# EAGLE library part AD7124-8BCPZ (library analog-devices-extra-AD7124-8BCPZ)
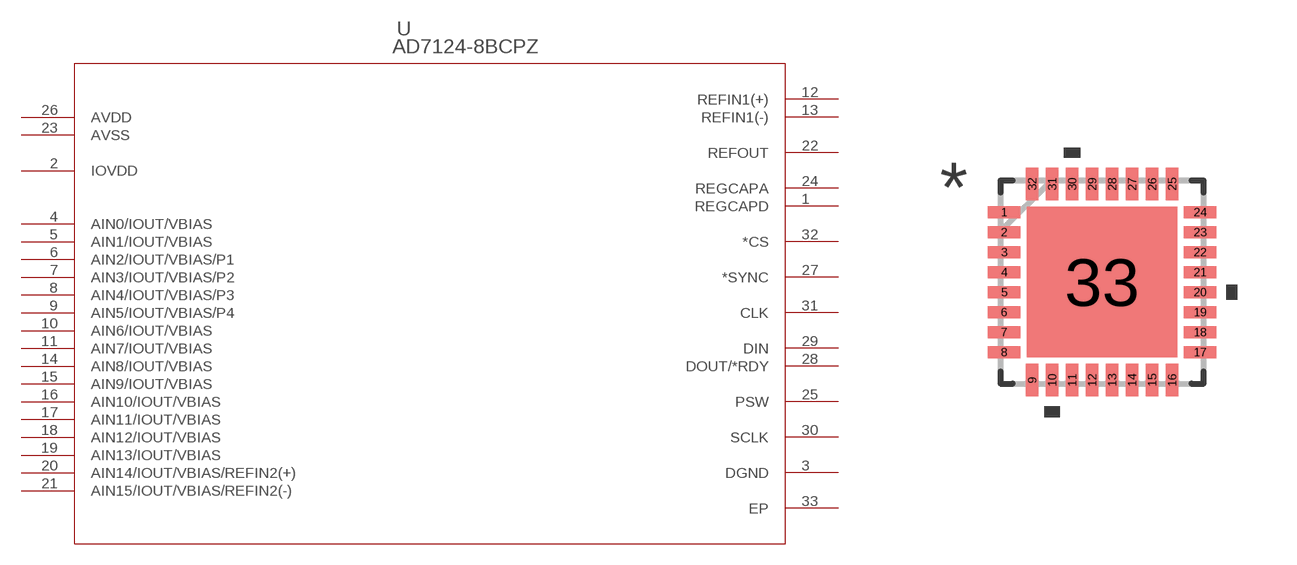
[diagram p0: symbol with the pads of CP_32_12; footprint CP_32_12]

Designator prefix U

## AD7124-8BCPZ  [CP_32_12]
1  REGCAPD  pas
2  IOVDD  pas
3  DGND  pas
4  AIN0/IOUT/VBIAS  pas
5  AIN1/IOUT/VBIAS  pas
6  AIN2/IOUT/VBIAS/P1  pas
7  AIN3/IOUT/VBIAS/P2  pas
8  AIN4/IOUT/VBIAS/P3  pas
9  AIN5/IOUT/VBIAS/P4  pas
10  AIN6/IOUT/VBIAS  pas
11  AIN7/IOUT/VBIAS  pas
12  REFIN1(+)  pas
13  REFIN1(-)  pas
14  AIN8/IOUT/VBIAS  pas
15  AIN9/IOUT/VBIAS  pas
16  AIN10/IOUT/VBIAS  pas
17  AIN11/IOUT/VBIAS  pas
18  AIN12/IOUT/VBIAS  pas
19  AIN13/IOUT/VBIAS  pas
20  AIN14/IOUT/VBIAS/REFIN2(+)  pas
21  AIN15/IOUT/VBIAS/REFIN2(-)  pas
22  REFOUT  pas
23  AVSS  pas
24  REGCAPA  pas
25  PSW  pas
26  AVDD  pas
27  *SYNC  pas
28  DOUT/*RDY  pas
29  DIN  pas
30  SCLK  pas
31  CLK  pas
32  *CS  pas
33  EP  pas

## Footprint CP_32_12 (pad centres in mm)
smd 0.813 x 0.305: 1 -2.451,1.75; 2 -2.451,1.25; 3 -2.451,0.75; 4 -2.451,0.25; 5 -2.451,-0.25; 6 -2.451,-0.75; 7 -2.451,-1.25; 8 -2.451,-1.75; 17 2.451,-1.75; 18 2.451,-1.25; 19 2.451,-0.75; 20 2.451,-0.25; 21 2.451,0.25; 22 2.451,0.75; 23 2.451,1.25; 24 2.451,1.75
smd 0.305 x 0.813: 9 -1.75,-2.451; 10 -1.25,-2.451; 11 -0.75,-2.451; 12 -0.25,-2.451; 13 0.25,-2.451; 14 0.75,-2.451; 15 1.25,-2.451; 16 1.75,-2.451; 25 1.75,2.451; 26 1.25,2.451; 27 0.75,2.451; 28 0.25,2.451; 29 -0.25,2.451; 30 -0.75,2.451; 31 -1.25,2.451; 32 -1.75,2.451
smd 3.759 x 3.759: 33 0,0